# Altium schematic symbol library IC_Interface.SchLib: 7 symbols
Pins are listed as number, name and electrical type; pins without a type are passive.

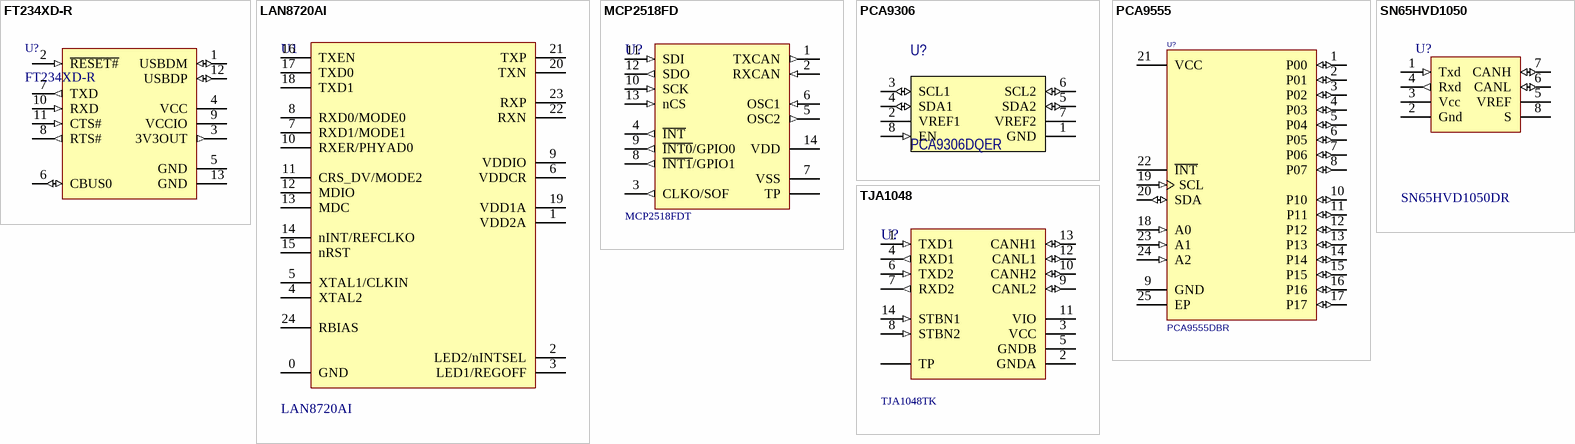
[diagram p0: symbols FT234XD-R to TJA1048]

## FT234XD-R
designator U?
Name: FT234XD-R; BOMString: FT234XD-R
footprint DFN-12-0.45-3x3_TP
pins: 1 USBDM (io), 2 ~{RESET#} (in), 3 3V3OUT (out), 4 VCC (power), 5 GND (power), 6 CBUS0 (io), 7 TXD (out), 8 RTS# (out), 9 VCCIO (power), 10 RXD (in), 11 CTS# (in), 12 USBDP (io), 13 GND (power)

## LAN8720AI
designator U1
10/100 Ethernet Transceiver; Manufacturer: SMSC; BOMString: LAN8720AI; Name: LAN8720AI
footprint QFN-24-0.5-4x4_TP
pins: 0 GND (power), 1 VDD2A, 2 LED2/nINTSEL, 3 LED1/REGOFF, 4 XTAL2, 5 XTAL1/CLKIN, 6 VDDCR, 7 RXD1/MODE1, 8 RXD0/MODE0, 9 VDDIO, 10 RXER/PHYAD0, 11 CRS_DV/MODE2, 12 MDIO, 13 MDC, 14 nINT/REFCLKO, 15 nRST, 16 TXEN, 17 TXD0, 18 TXD1, 19 VDD1A, 20 TXN, 21 TXP, 22 RXN, 23 RXP, 24 RBIAS

## MCP2518FD
designator U?, comment MCP2518FDT
External CAN FD Controller with SPI Interface; Manufacturer: Microchip Technology; Speed: 8Mbps; Name: MCP2518FDT; HelpURL: http://ww1.microchip.com/downloads/en/DeviceDoc/MCP2518FD-Data-Sheet-20006027A.pdf; BOMString: MCP2518FDT; Price10k: 0; Supplier: https://www.digikey.com/product-detail/en/microchip-technology/MCP2518FDT-H-SL/MCP2518FDT-H-SLCT-ND/10231406; Price: 0
footprint DFN-14-0.65-4.5x3 (QFN, 14-Leads, Body 3,00x4,50mm, Pitch 0,65mm, Thermal Pad 1,60x3,00mm, IPC Medium Density)
pins: 0 TP, 1 TXCAN (out), 2 RXCAN (in), 3 CLKO/SOF (out), 4 ~{INT} (out), 5 OSC2 (out), 6 OSC1 (in), 7 VSS, 8 ~{INT1}/GPIO1 (out), 9 ~{INT0}/GPIO0 (out), 10 SCK (in), 11 SDI (in), 12 SDO (out), 13 nCS (in), 14 VDD

## PCA9306
designator U?, comment PCA9306DQER
IC TRNSLTR BIDIRECTIONAL 8X2SON; Manufacturer: Texas Instruments; Factory Stock: 0; Unit Price (USD): 0.23490; Minimum Quantity: 5000; Translator Type: Voltage Level; Number of Circuits: 1; Channels per Circuit: 2; Voltage - VCCA: 1.2V ~ 3.3V; Voltage - VCCB: 1.8V ~ 5.5V; Output Type: Open Drain, Push-Pull; Name: PCA9306DQER; HelpURL: http://www.ti.com/lit/ds/symlink/pca9306.pdf; ComponentLink1Description: Datasheet; Supplier 1: Digikey; Supplier: https://www.digikey.com/product-detail/en/texas-instruments/PCA9306DQER/296-27957-1-ND/2446266; Image: https://media.digikey.com/Renders/Texas%20Instr%20Renders/DQE-8-X2SON%20Pkg.jpg; Quantity Available: 95000; @ qty: 0; Packaging: Tape & Reel (TR); Series: -; Part Status: Active; Channel Type: Bidirectional; Input Signal: -; Output Signal: -; Data Rate: -; Operating Temperature: -40°C ~ 85°C (TA); Features: Auto-Direction Sensing; Mounting Type: Surface Mount; Package / Case: 8-XFDFN; Supplier Device Package: 8-X2SON (1.4x1.0); BOMString: PCA9306DQER
footprint DFN-8-0.35-1.2x1.6 (X2SON)
pins: 1 GND (power), 2 VREF1 (power), 3 SCL1 (io), 4 SDA1 (io), 5 SDA2 (io), 6 SCL2 (io), 7 VREF2 (power), 8 EN (in)

## PCA9555
designator U?, comment PCA9555DBR
Remote 16-Bit I2C and SMBus I/O Expander with Interrupt Output and Configuration Registers, 2.3 to 5.5 V, -40 to 85 degC, 24-pin VQFN (RGE), Green (RoHS & no Sb/Br); Mounting Technology: Surface Mount; Pins: 25; ComponentLink1URL: http://www.ti.com/general/docs/lit/getliterature.tsp?genericPartNumber=PCA9555&fileType=pdf; ComponentLink2URL: http://www.ti.com/litv/pdf/mpds211a; ComponentLink2Description: Package Specification; ComponentLink1Description: Datasheet; Name: PCA9555DBR
footprint TSSOP-24-0.65 (TSOP, 24-Leads, Body 7,80x4,40mm, Pitch 0,65mm, IPC Medium Density)
footprint QFN-24-0.5-4x4_TP
pins: 1 P00 (io) "P-port input/output. Push-pull design structure.", 2 P01 (io) "P-port input/output. Push-pull design structure.", 3 P02 (io) "P-port input/output. Push-pull design structure.", 4 P03 (io) "P-port input/output. Push-pull design structure.", 5 P04 (io) "P-port input/output. Push-pull design structure.", 6 P05 (io) "P-port input/output. Push-pull design structure.", 7 P06 (io) "P-port input/output. Push-pull design structure.", 8 P07 (io) "P-port input/output. Push-pull design structure.", 9 GND (power) "Ground", 10 P10 (io) "P-port input/output. Push-pull design structure.", 11 P11 (io) "P-port input/output. Push-pull design structure.", 12 P12 (io) "P-port input/output. Push-pull design structure.", 13 P13 (io) "P-port input/output. Push-pull design structure.", 14 P14 (io) "P-port input/output. Push-pull design structure.", 15 P15 (io) "P-port input/output. Push-pull design structure.", 16 P16 (io) "P-port input/output. Push-pull design structure.", 17 P17 (io) "P-port input/output. Push-pull design structure.", 18 A0 (in) "Address input 0. Connect directly to VCC or ground.", 19 SCL (in) "Serial clock bus. Connect to VCC through a pullup resistor.", 20 SDA (io) "Serial data bus. Connect to VCC through a pullup resistor.", 21 VCC (power) "Supply voltage", 22 ~{INT} (oc) "Interrupt output. Connect to VCC through a pullup resistor.", 23 A1 (in) "Address input 1. Connect directly to VCC or ground.", 24 A2 (in) "Address input 2. Connect directly to VCC or ground.", 25 EP "Exposed thermal pad"

## SN65HVD1050
designator U?, comment SN65HVD1050DR
SN65HVD1050, CAN transmitter 5v, SO8; PackageDescription: 8-Pin Plastic Small Outline Package 0.65 mm Pitch; Name: SN65HVD1050DR; Supplier: https://www.digikey.com/product-detail/en/texas-instruments/SN65HVD1050DR/296-26335-1-ND/2254972; HelpURL: http://www.ti.com/lit/ds/symlink/sn65hvd1050.pdf; BOMString: SN65HVD1050DR
footprint SOIC-8
pins: 1 Txd (in), 2 Gnd (power), 3 Vcc (power), 4 Rxd (out), 5 VREF, 6 CANL (io), 7 CANH (io), 8 S

## TJA1048
designator U?, comment TJA1048TK
Dual high-speed CAN transceiver w/Standby mode; Manufacturer: Nexperia; Speed: 5Mbps; Name: TJA1048TK; HelpURL: https://www.nxp.com/docs/en/data-sheet/TJA1048.pdf; BOMString: TJA1048TK; Price10k: 0; Supplier: https://www.electronshik.ru/item/NXP/TJA1048T.118; Price: 0
footprint DFN-14-0.65-4.5x3 (QFN, 14-Leads, Body 3,00x4,50mm, Pitch 0,65mm, Thermal Pad 1,60x3,00mm, IPC Medium Density)
pins: 0 TP (power), 1 TXD1 (in), 2 GNDA (power), 3 VCC (power), 4 RXD1 (out), 5 GNDB (power), 6 TXD2 (in), 7 RXD2 (out), 8 STBN2 (in), 9 CANL2 (io), 10 CANH2 (io), 11 VIO (power), 12 CANL1 (io), 13 CANH1 (io), 14 STBN1 (in)